# Altium footprint library qspi_memories.PcbLib: 1 footprints
Each footprint in its own frame and in the unit in brackets; x right, y up, seen from the top. Pads: shape width x height; smd on the part's side, far side on the other; paste and mask are expansions set on the pad; w line width, h text height; cw(c..) or ccw(c..) is an arc to the next point about the centre after c.
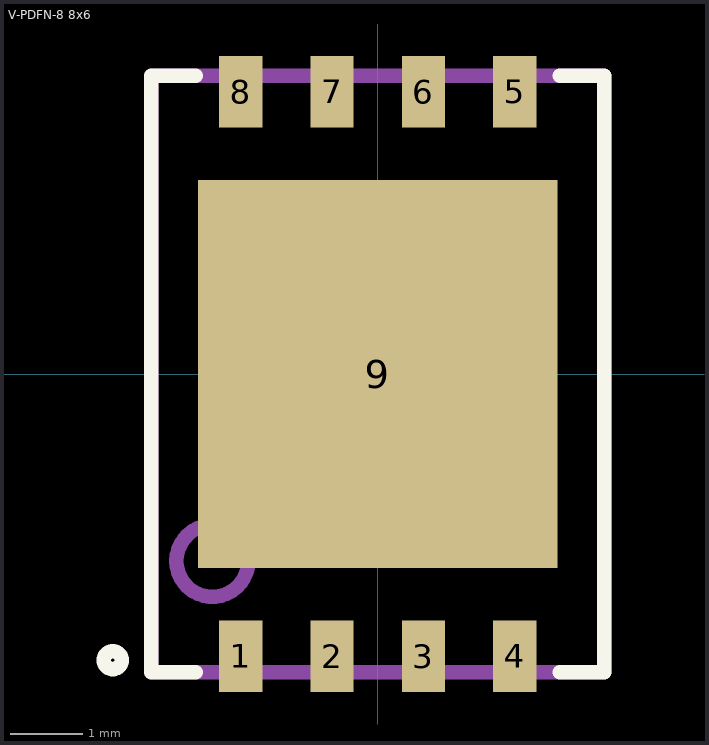
[diagram p0: the footprint, top view; thin cyan lines are the x and y axes]

## V-PDFN-8 8x6 [mm]
pads (9):
  rect 0.6x1 smd paste+0 mask+0.1: 1(-1.905,-3.925) 2(-0.635,-3.925) 3(0.635,-3.925) 4(1.905,-3.925) 5(1.905,3.925) 6(0.635,3.925) 7(-0.635,3.925) 8(-1.905,3.925)
  rect 5x5.4 smd paste+0 mask+0.1: 9(0,0)
Top Overlay:
  lines w0.2: -3.15,-0.01 -3.15,4.15 -2.53,4.15 ; -3.15,0.01 -3.15,-4.15 -2.53,-4.15 ; 2.53,-4.15 3.15,-4.15 3.15,0.01 ; 2.53,4.15 3.15,4.15 3.15,-0.01 ; -3.81,-3.98 cw(c-3.685,-3.98) -3.56,-3.98 cw(c-3.685,-3.98) -3.81,-3.98
Mechanical 4:
  lines w0.2: -3.15,-4.15 -3.15,4.15 3.15,4.15 3.15,-4.15 -3.15,-4.15 ; -2.8,-2.6 cw(c-2.3,-2.6) -1.8,-2.6 cw(c-2.3,-2.6) -2.8,-2.6
3D body "User Library-memory.step": height 1.01, standoff 0, extent -3,-4.032 3,4.018